# Altium footprint library Driver.PcbLib: 21 footprints (part 1 of 2)
Each footprint in its own frame and in the unit in brackets; x right, y up, seen from the top. Pads: shape width x height; smd on the part's side, far side on the other; paste and mask are expansions set on the pad; w line width, h text height; cw(c..) or ccw(c..) is an arc to the next point about the centre after c.
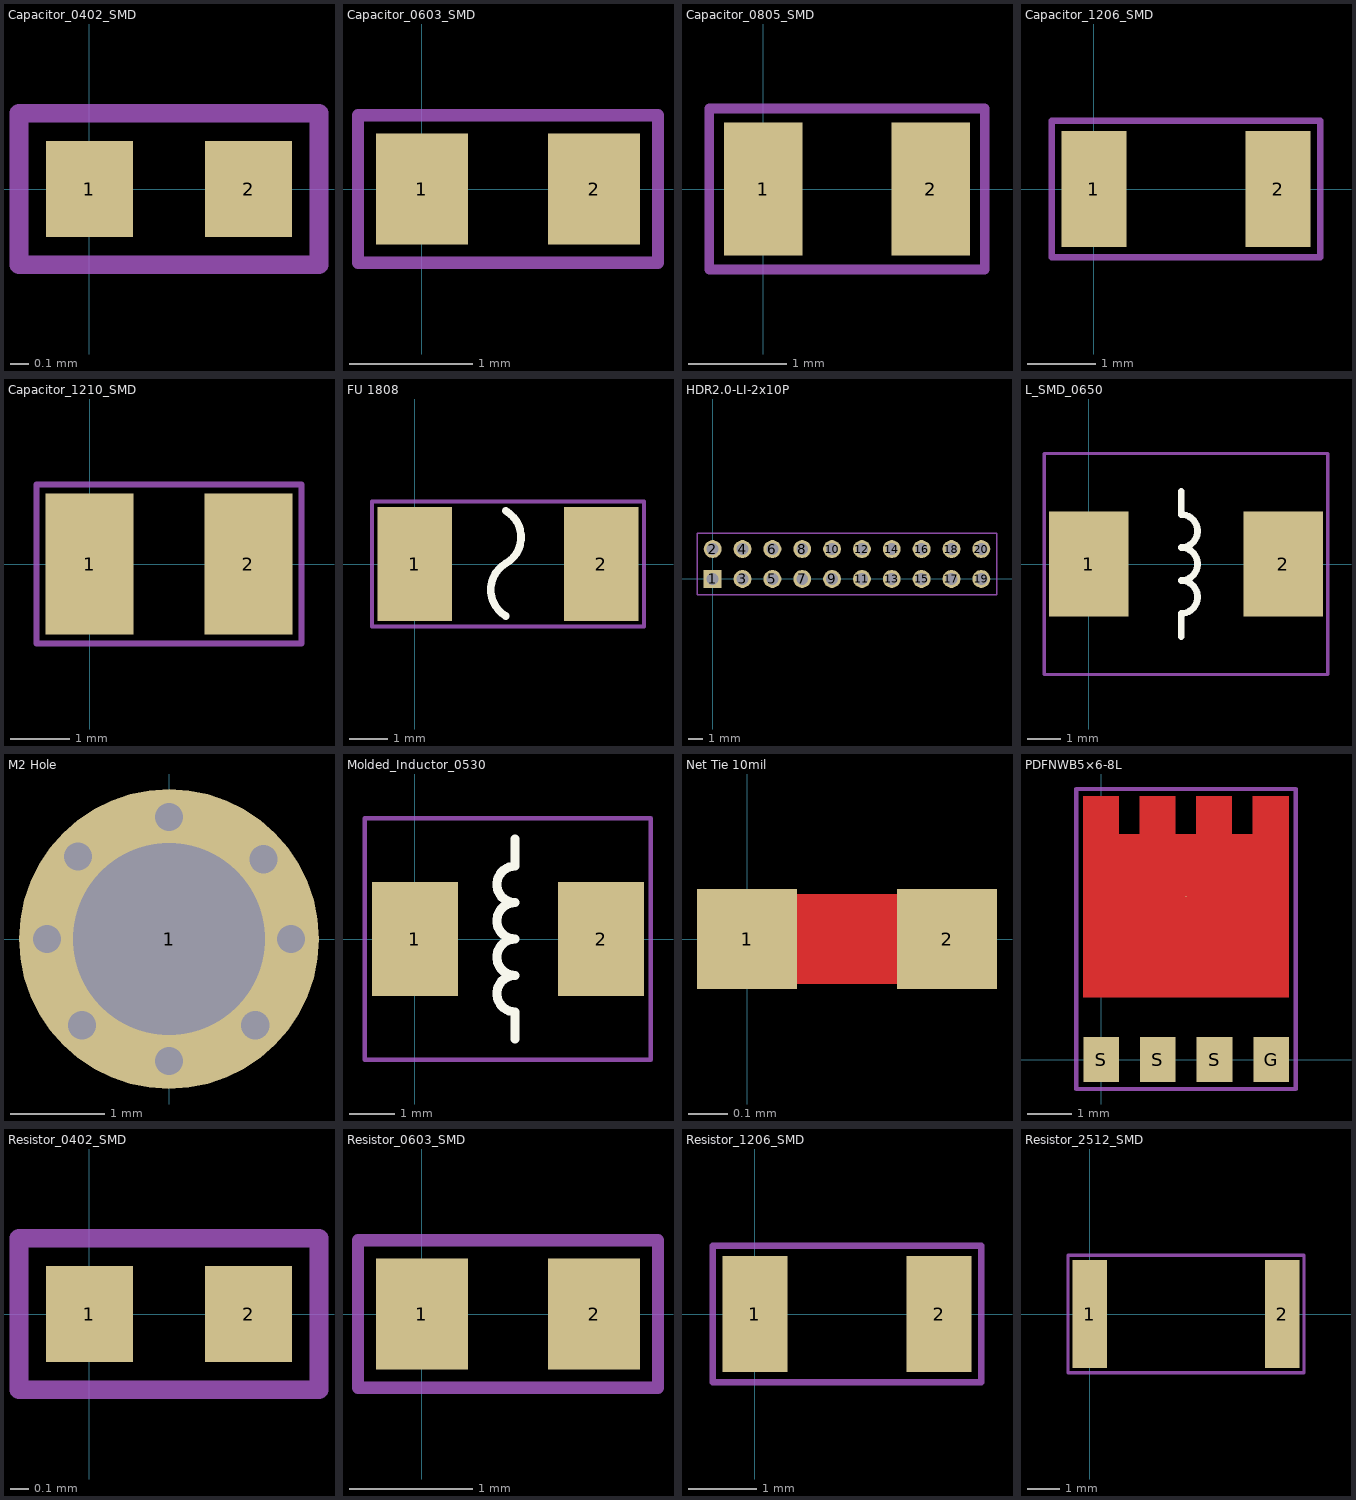
[diagram p0: the footprints below, top view; thin cyan lines are the x and y axes]

## Capacitor_0402_SMD [mm]
pads (2):
  rect 0.47x0.52 smd: 1(0,0) 2(0.86,0)
Mechanical 15:
  lines w0.1: -0.38,-0.41 1.24,-0.41 1.24,0.41 -0.38,0.41 -0.38,-0.41
3D body "capacitor_smd_0402.step": height 0.51, standoff -0.01, extent -0.165,-0.262 1.025,0.262

## Capacitor_0603_SMD [mm]
pads (2):
  rect 0.75x0.9 smd: 1(0,0) 2(1.4,0)
Mechanical 15:
  lines w0.1: -0.52,-0.6 1.92,-0.6 1.92,0.6 -0.52,0.6 -0.52,-0.6
3D body "capacitor_smd_0603.step": height 0.81, standoff -0.01, extent -0.23,-0.413 1.63,0.413

## Capacitor_0805_SMD [mm]
pads (2):
  rect 0.8x1.35 smd: 1(0,0) 2(1.7,0)
Mechanical 15:
  lines w0.1: -0.55,-0.82 2.25,-0.82 2.25,0.82 -0.55,0.82 -0.55,-0.82
3D body "capacitor_smd_0805.step": height 1.26, standoff -0.01, extent -0.24,-0.637 1.94,0.637

## Capacitor_1206_SMD [mm]
pads (2):
  rect 0.95x1.7 smd: 1(0,0) 2(2.7,0)
Mechanical 15:
  lines w0.1: -0.62,-1 3.32,-1 3.32,1 -0.62,1 -0.62,-1
3D body "capacitor_smd_1206.step": height 1.61, standoff -0.01, extent -0.4,-0.813 3.1,0.813

## Capacitor_1210_SMD [mm]
pads (2):
  rect 1.5x2.4 smd: 1(0,0) 2(2.7,0)
Mechanical 15:
  lines w0.1: -0.9,-1.35 3.6,-1.35 3.6,1.35 -0.9,1.35 -0.9,-1.35
3D body "capacitor_smd_1210.step": height 2.51, standoff -0.01, extent -0.4,-1.262 3.1,1.262

## FU 1808 [mm]
pads (2):
  rect 1.96x3 smd: 1(0,0) 2(4.91,0)
Top Overlay:
  lines w0.2: 2.4,-1.371 cw(c2.8,-0.678) 2.4,0.014 ccw(c2,0.707) 2.4,1.4
Mechanical 15:
  lines w0.1: -1.13,-1.65 6.04,-1.65 6.04,1.65 -1.13,1.65 -1.13,-1.65
3D body "451_453.step": height 2.69, standoff 0, extent -0.6,-1.345 5.5,1.345

## HDR2.0-LI-2x10P [mm]
pads (20):
  rect 1.2x1.2 hole 0.8: 1(0,0)
  round 1.2 hole 0.8: 2(0,2) 3(2,0) 4(2,2) 5(4,0) 6(4,2) 7(6,0) 8(6,2) 9(8,0) 10(8,2) 11(10,0) 12(10,2) 13(12,0) 14(12,2) 15(14,0) 16(14,2) 17(16,0) 18(16,2) 19(18,0) 20(18,2)
Mechanical 15:
  lines w0.1: -1.05,-1.05 19.05,-1.05 19.05,3.05 -1.05,3.05 -1.05,-1.05
3D body "双排针 间距2.0mm 10x2.step": height 6, standoff -2.8, extent -1,-1 19,3

## L_SMD_0650 [mm] "一体成型功率电感7*7*5mm"
height 5
pads (2):
  rect 2.4x3.2 smd: 1(0,0) 2(5.9,0)
Top Overlay:
  lines w0.2: 2.8,-2.2 2.8,-1.5 ccw(c2.8,-1) 2.8,-0.5 ccw(c2.8,0) 2.8,0.5 ccw(c2.8,1) 2.8,1.5 2.8,2.2
Mechanical 15:
  lines w0.1: -1.35,-3.35 7.25,-3.35 7.25,3.35 -1.35,3.35 -1.35,-3.35
3D body "L0605.step": height 5, standoff 0, extent -0.75,-3.3 6.65,3.3

## M2 Hole [mm]
pads (1):
  round 3.2 hole 2.05: 1(0,0)
via -0.93,-0.92 diameter 0.3 hole 0.3
via 0.92,-0.92 diameter 0.3 hole 0.3
via -1.3,0 diameter 0.3 hole 0.3
via 0,1.3 diameter 0.3 hole 0.3
via 1.3,0 diameter 0.3 hole 0.3
via 0,-1.3 diameter 0.3 hole 0.3
via -0.97,0.88 diameter 0.3 hole 0.3
via 1.01,0.85 diameter 0.3 hole 0.3

## Molded_Inductor_0530 [mm]
pads (2):
  rect 1.895x2.5 smd: 1(0,0) 2(4.09,0)
Top Overlay:
  lines w0.2: 2.2,-2.2 2.2,-1.6 cw(c2.2,-1.2) 2.2,-0.8 cw(c2.2,-0.4) 2.2,0 cw(c2.2,0.4) 2.2,0.8 cw(c2.2,1.2) 2.2,1.6 2.2,2.2
Mechanical 15:
  lines w0.1: -1.1,-2.65 5.18,-2.65 5.18,2.65 -1.1,2.65 -1.1,-2.65
3D body "molded_inductor_5030.STEP": height 2.8, standoff 0, extent -0.85,-2.6 4.95,2.6

## Net Tie 10mil [mil]
pads (2):
  rect 10x10 smd paste-99999 mask+4: 1(0,0) 2(20,0)
Top Layer:
  rectangle: 4,-4.5 16,4.5

## PDFNWB5×6-8L [mm]
pads (5):
  round 0.025 smd: D(1.9,3.65)
  rect 0.8x1 smd: G(3.81,0) S(0,0) S(1.27,0) S(2.54,0)
Top Layer:
  region: -0.4,1.4 4.2,1.4 4.2,5.9 3.4,5.9 3.4,5.05 2.93,5.05 2.93,5.9 2.13,5.9 2.13,5.05 1.66,5.05 1.66,5.9 0.86,5.9 0.86,5.05 0.39,5.05 0.39,5.9 -0.4,5.9
Mechanical 15:
  lines w0.1: -0.56,-0.66 4.36,-0.66 4.36,6.06 -0.56,6.06 -0.56,-0.66
3D body "pdfn5x6.step": height 1.02, standoff 0, extent -0.6,-0.35 4.4,5.65

## Resistor_0402_SMD [mm]
pads (2):
  rect 0.47x0.52 smd: 1(0,0) 2(0.86,0)
Mechanical 15:
  lines w0.1: -0.38,-0.41 1.24,-0.41 1.24,0.41 -0.38,0.41 -0.38,-0.41
3D body "resistor_smd_0402.step": height 0.36, standoff -0.01, extent -0.07,-0.262 0.93,0.262

## Resistor_0603_SMD [mm]
pads (2):
  rect 0.75x0.9 smd: 1(0,0) 2(1.4,0)
Mechanical 15:
  lines w0.1: -0.52,-0.6 1.92,-0.6 1.92,0.6 -0.52,0.6 -0.52,-0.6
3D body "resistor_smd_0603.step": height 0.46, standoff -0.01, extent -0.11,-0.413 1.49,0.413

## Resistor_1206_SMD [mm]
pads (2):
  rect 0.95x1.7 smd: 1(0,0) 2(2.7,0)
Mechanical 15:
  lines w0.1: -0.62,-1 -0.62,1 3.32,1 3.32,-1 -0.62,-1
3D body "resistor_smd_1206.step": height 0.61, standoff -0.01, extent -0.25,-0.813 2.95,0.813

## Resistor_2512_SMD [mm]
pads (2):
  rect 1.05x3.3 smd: 1(0,0) 2(5.9,0)
Mechanical 15:
  lines w0.1: -0.67,-1.8 6.57,-1.8 6.57,1.8 -0.67,1.8 -0.67,-1.8
3D body "resistor_smd_2512.step": height 0.61, standoff -0.01, extent -0.25,-1.613 6.15,1.613